# Altium schematic symbol library MasaLibrary.SchLib: 9 symbols
Pins are listed as number, name and electrical type; pins without a type are passive.

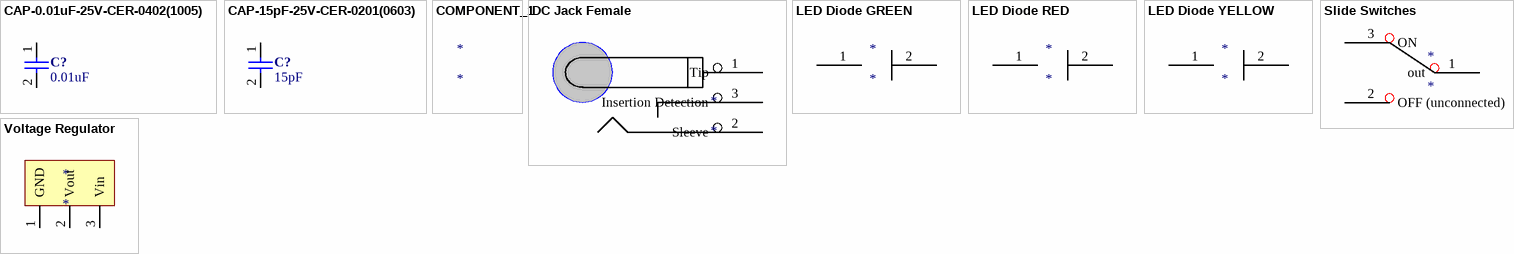
[diagram p0: symbols CAP-0.01uF-25V-CER-0402(1005) to Voltage Regulator]

## CAP-0.01uF-25V-CER-0402(1005)
designator C?, comment 0.01uF
CAP CER 0.01uF 25V 5% C0G 0402 yagoe; RoHS: RoHS Compliant; Category: Capacitors; Capacitance: 0.01uF; Voltage - Rated: 25V; Tolerance: ±5%; Temperature Coefficient: C0G; Mounting Type: Surface Mount, MLCC; Applications: General Purpose; Package / Case: 0402 (1005 Metric); Size / Dimension: 0.063" L x 0.031" W (1.60mm x 0.80mm); Thickness (Max): 0.035" (0.90mm)
footprint CAP-0.01uF-25V-CER-0402(0603)
pins: 1, 2

## CAP-15pF-25V-CER-0201(0603)
designator C?, comment 15pF
CAP CER 15pF 25V 5% C0G 0603 Murata; RoHS: RoHS Compliant; Category: Capacitors; Capacitance: 15pF; Voltage - Rated: 25V; Tolerance: ±5%; Temperature Coefficient: C0G; Mounting Type: Surface Mount, MLCC; Applications: General Purpose; Package / Case: 0201 (0603 Metric); Size / Dimension: 0.063" L x 0.031" W (1.60mm x 0.80mm); Thickness (Max): 0.035" (0.90mm)
footprint CAP-15pF-25V-CER-0201(0603)
pins: 1, 2

## COMPONENT_1
designator *

## DC Jack Female
designator *
footprint DC Jack Female (Jack_2.5A_16V_Through_Hole__copper_CUI)
pins: 1 Tip, 2 Sleeve, 3 Insertion Detection

## LED Diode GREEN
designator *
GREEN_20mA_2.1V_230mcd_Kingbright
footprint Green LED Diode (GREEN_20mA_2.1V_230mcd_Kingbright)
pins: 1, 2

## LED Diode RED
designator *
RED_20mA_1.95V_1000mcd_Kingbright
footprint Red LED Diode (RED_20mA_1.95V_1000mcd_Kingbright)
pins: 1, 2

## LED Diode YELLOW
designator *
YELLOW_20mA_2V_480mcd_Kingbright
footprint Yellow LED Diode (YELLOW_20mA_2V_480mcd_Kingbright)
pins: 1, 2

## Slide Switches
designator *
footprint Slide Switches (500mA_12V_ Extended_Straight_Gold_EAO_1K2_BLK_ACT_GOLD_TRT_MNT)
pins: 1 out, 2 OFF (unconnected), 3 ON

## Voltage Regulator
designator *
footprint PCBComponent_1
pins: 1 GND, 2 Vout, 3 Vin